# EAGLE library part AD5263POT (library ardustat)
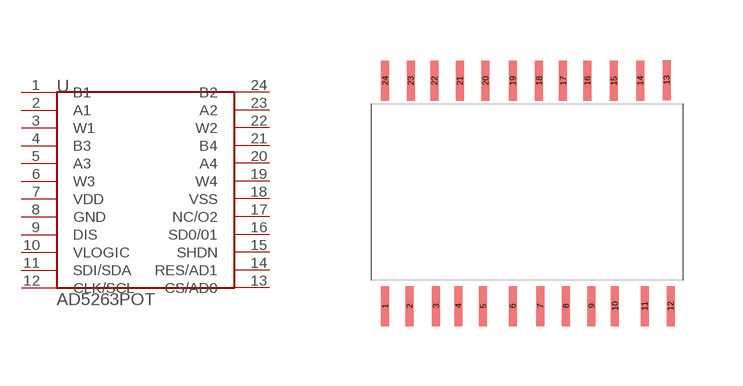
[diagram p4: symbol with the pads of TSSOP-24; footprint TSSOP-24]

Designator prefix -

## AD5263POTAD5263  [TSSOP-24]
1  B1
2  A1
3  W1
4  B3
5  A3
6  W3
7  VDD
8  GND
9  DIS
10  VLOGIC
11  SDI/SDA
12  CLK/SCL
13  CS/AD0
14  RES/AD1
15  SHDN
16  SD0/01
17  NC/O2
18  VSS
19  W4
20  A4
21  B4
22  W2
23  A2
24  B2

## Footprint TSSOP-24 (pad centres in mm)
smd 0.2 x 1: 1 -3.64,-2.85; 2 -3.03,-2.85; 3 -2.37,-2.85; 4 -1.81,-2.85; 5 -1.19,-2.85; 6 -0.45,-2.85; 7 0.24,-2.85; 8 0.88,-2.85; 9 1.52,-2.85; 10 2.11,-2.85; 11 2.85,-2.85; 12 3.5,-2.85; 13 3.4,2.8; 14 2.74,2.78; 15 2.08,2.78; 16 1.42,2.78; 17 0.81,2.78; 18 0.21,2.78; 19 -0.45,2.78; 20 -1.13,2.78; 21 -1.77,2.78; 22 -2.41,2.78; 23 -3,2.78; 24 -3.64,2.78